# Altium footprint library 691 309 410 0xx.PcbLib: 6 footprints
Each footprint in its own frame and in the unit in brackets; x right, y up, seen from the top. Pads: shape width x height; smd on the part's side, far side on the other; paste and mask are expansions set on the pad; w line width, h text height; cw(c..) or ccw(c..) is an arc to the next point about the centre after c.
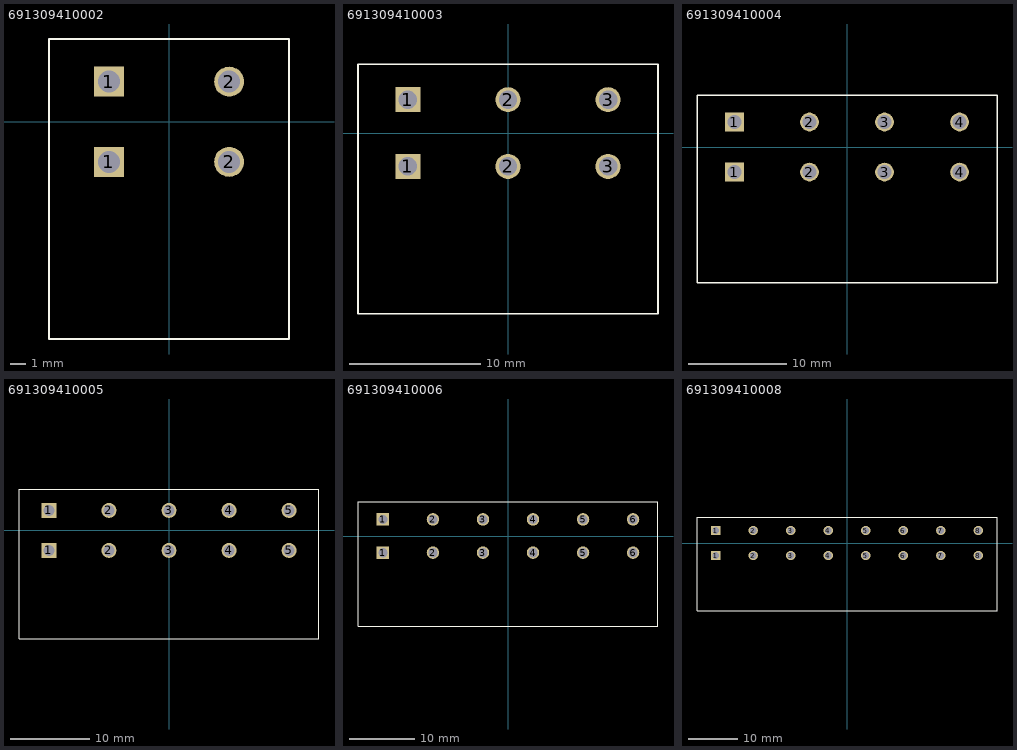
[diagram p0: the footprints below, top view; thin cyan lines are the x and y axes]

## 691309410002 [mm] "7.62 mm - Reversed Gender Horizontal PCB Header - 02p"
height 8.6
pads (4):
  rect 1.9x1.9 hole 1.4: 1(-3.81,-2.54) 1(-3.81,2.54)
  round 1.9 hole 1.4: 2(3.81,-2.54) 2(3.81,2.54)
Top Overlay:
  lines w0.127: -7.61,-13.76 -7.61,5.24 7.61,5.24 7.61,-13.76 -7.61,-13.76
3D body: height 10.76, standoff -3.49, extent -7.67,-13.76 7.67,5.24

## 691309410003 [mm] "7.62 mm - Reversed Gender Horizontal PCB Header - 03p"
height 8.6
pads (6):
  rect 1.9x1.9 hole 1.4: 1(-7.62,-2.54) 1(-7.62,2.54)
  round 1.9 hole 1.4: 2(0,-2.54) 2(0,2.54) 3(7.62,-2.54) 3(7.62,2.54)
Top Overlay:
  lines w0.127: -11.42,-13.76 -11.42,5.24 11.42,5.24 11.42,-13.76 -11.42,-13.76
3D body: height 10.76, standoff -3.49, extent -11.48,-13.76 11.48,5.24

## 691309410004 [mm] "7.62 mm - Reversed Gender Horizontal PCB Header - 04p"
height 8.6
pads (8):
  rect 1.9x1.9 hole 1.4: 1(-11.43,-2.54) 1(-11.43,2.54)
  round 1.9 hole 1.4: 2(-3.81,-2.54) 2(-3.81,2.54) 3(3.81,-2.54) 3(3.81,2.54) 4(11.43,-2.54) 4(11.43,2.54)
Top Overlay:
  lines w0.127: -15.23,-13.76 -15.23,5.24 15.23,5.24 15.23,-13.76 -15.23,-13.76
3D body: height 10.76, standoff -3.49, extent -15.29,-13.76 15.29,5.24

## 691309410005 [mm] "7.62 mm - Reversed Gender Horizontal PCB Header - 05p"
height 8.6
pads (10):
  rect 1.9x1.9 hole 1.4: 1(-15.24,-2.54) 1(-15.24,2.54)
  round 1.9 hole 1.4: 2(-7.62,-2.54) 2(-7.62,2.54) 3(0,-2.54) 3(0,2.54) 4(7.62,-2.54) 4(7.62,2.54) 5(15.24,-2.54) 5(15.24,2.54)
Top Overlay:
  lines w0.127: -19.04,-13.76 19.04,-13.76 19.04,5.24 -19.04,5.24 -19.04,-13.76
3D body: height 10.76, standoff -3.49, extent -19.1,-13.76 19.1,5.24

## 691309410006 [mm] "7.62 mm - Reversed Gender Horizontal PCB Header - 06p"
height 8.6
pads (12):
  rect 1.9x1.9 hole 1.4: 1(-19.05,-2.54) 1(-19.05,2.54)
  round 1.9 hole 1.4: 2(-11.43,-2.54) 2(-11.43,2.54) 3(-3.81,-2.54) 3(-3.81,2.54) 4(3.81,-2.54) 4(3.81,2.54) 5(11.43,-2.54) 5(11.43,2.54) 6(19.05,-2.54) 6(19.05,2.54)
Top Overlay:
  lines w0.127: -22.85,-13.76 22.85,-13.76 22.85,5.24 -22.85,5.24 -22.85,-13.76
3D body: height 10.76, standoff -3.49, extent -22.91,-13.76 22.91,5.24

## 691309410008 [mm] "7.62 mm - Reversed Gender Horizontal PCB Header - 08p"
height 8.6
pads (16):
  rect 1.9x1.9 hole 1.4: 1(-26.67,-2.54) 1(-26.67,2.54)
  round 1.9 hole 1.4: 2(-19.05,-2.54) 2(-19.05,2.54) 3(-11.43,-2.54) 3(-11.43,2.54) 4(-3.81,-2.54) 4(-3.81,2.54) 5(3.81,-2.54) 5(3.81,2.54) 6(11.43,-2.54) 6(11.43,2.54) 7(19.05,-2.54) 7(19.05,2.54) 8(26.67,-2.54) 8(26.67,2.54)
Top Overlay:
  lines w0.127: -30.47,-13.76 30.47,-13.76 30.47,5.24 -30.47,5.24 -30.47,-13.76
3D body: height 10.76, standoff -3.49, extent -30.53,-13.76 30.53,5.24